# EAGLE library part IS31FL3728 (library pimoroni)
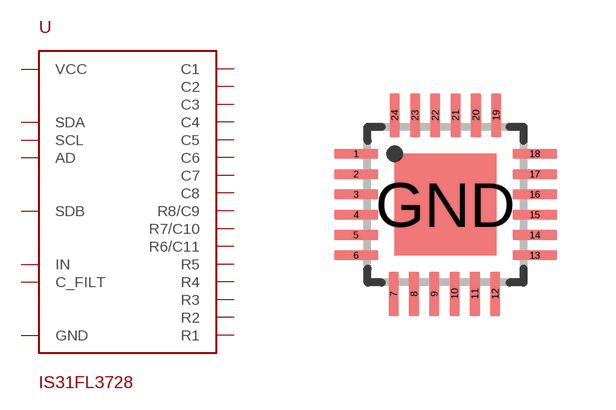
[diagram p25: symbol with the pads of QFN24; footprint QFN24]

Designator prefix -

## IS31FL3728QFN24  [QFN24]
1  SDA
2  SCL
3  SDB
4  IN
5  C_FILT
6  AD
7  R1
8  R2
9  R3
10  R4
11  VCC
12  R5
13  R6/C11
14  R7/C10
15  R8/C9
16  C8
17  C7
18  C6
19  C5
20  GND
21  C4
22  C3
23  C2
24  C1
GND  GND

## Footprint QFN24 (pad centres in mm)
QFN 4x4 mm
smd 1.108 x 0.254: 1 -2.235,1.27; 2 -2.235,0.762; 3 -2.235,0.254; 4 -2.235,-0.254; 5 -2.235,-0.762; 6 -2.235,-1.27; 13 2.235,-1.27; 14 2.235,-0.762; 15 2.235,-0.254; 16 2.235,0.254; 17 2.235,0.762; 18 2.235,1.27
smd 0.254 x 1.108: 7 -1.295,-2.235; 8 -0.787,-2.235; 9 -0.279,-2.235; 10 0.229,-2.235; 11 0.737,-2.235; 12 1.245,-2.235; 19 1.27,2.235; 20 0.762,2.235; 21 0.254,2.235; 22 -0.254,2.235; 23 -0.762,2.235; 24 -1.27,2.235
smd 2.54 x 2.54: GND 0,0